# EAGLE library part 1990041 (library 1990041)
PCB terminal block, nominal current: 2 A, rated voltage (III/2): 250 V, nominal cross section: 0.5 mm, number of potentials: 6, number of rows: 1, number of positions per row: 6, product range: PTSA 0,5, pitch: 2.5 mm, connection method: Push-in spring connection, mounting: Wave soldering, conductor/PCB connection direction: 45 , color: green, Pin layout: Zigzag pinning W, Solder pin [P]: 3.6 mm, number of solder pins per potential: 1, type of packaging: packed in cardboard. Offset soldering legs, two-row Source: Datasheet <https://datasheet.datasheetarchive.com/originals/distributors/SFDatasheet-2/sf-00059273.pdf>
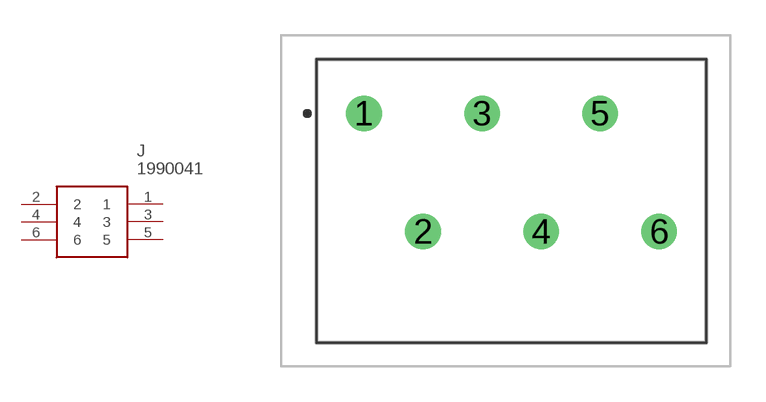
[diagram p0: symbol with the pads of 1990041; footprint 1990041]

Designator prefix J

## 1990041 (Description: PCB terminal block, nominal current: 2 A, rated voltage (III/2): 250 V, nominal cross section: 0.5 mm, number of potentials: 6, number of rows: 1, number of positions per row: 6, product range: PTSA 0,5, pitch: 2.5 mm, connection method: Push-in spring connection, mounting: Wave soldering, conductor/PCB connection direction: 45 , color: green, Pin layout: Zigzag pinning W, Solder pin [P]: 3.6 mm, number of solder pins per potential: 1, type of packaging: packed in cardboard. Offset soldering legs, two-row; Height: 13.1mm; Manufacturer_Name: Phoenix Contact; Manufacturer_Part_Number: 1990041; Mouser_Part_Number: 651-1990041; Mouser_Price-Stock: https://www.mouser.co.uk/ProductDetail/Phoenix-Contact/1990041?qs=eiqBpq341KWfl%252B1fhZg0IQ%3D%3D)  [1990041]
1  1
2  2
3  3
4  4
5  5
6  6

## Footprint 1990041 (pad centres in mm)
1990041_1
drill 1 pad 1.5: 1 0,0; 2 2.5,-5; 3 5,0; 4 7.5,-5; 5 10,0; 6 12.5,-5